# Altium footprint library PCB - POWER INDUCTORS - VISHAY IHLP-2020BZ-01.PcbLib: 1 footprints
Each footprint in its own frame and in the unit in brackets; x right, y up, seen from the top. Pads: shape width x height; smd on the part's side, far side on the other; paste and mask are expansions set on the pad; w line width, h text height; cw(c..) or ccw(c..) is an arc to the next point about the centre after c.
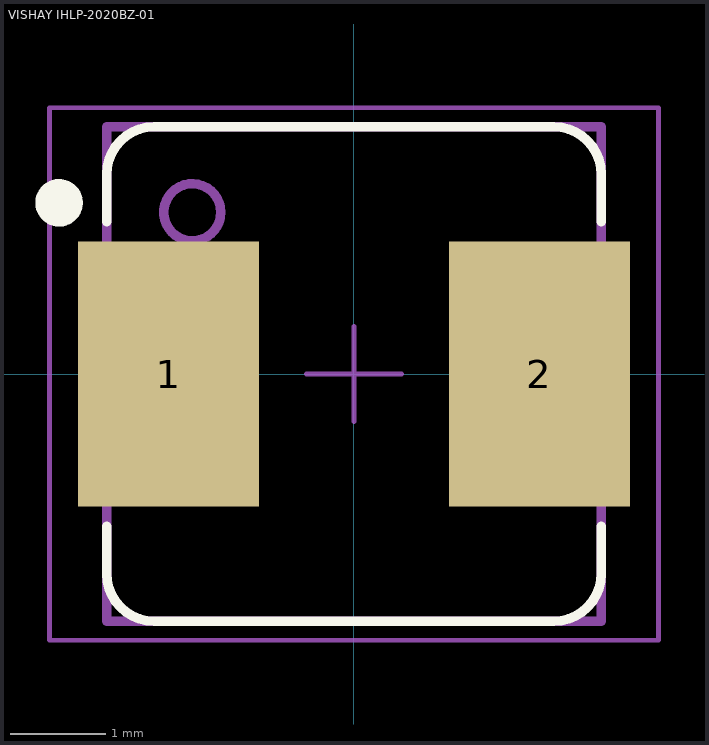
[diagram p0: the footprint, top view; thin cyan lines are the x and y axes]

## VISHAY IHLP-2020BZ-01 [mm] "SMD Power Inductor, 2-Leads, body 5x5mm"
height 2
pads (2):
  rect 1.905x2.79 smd: 1(-1.95,0) 2(1.95,0)
Top Overlay:
  circle w0.25: c-3.1,1.8 r0.125
  lines w0.1: -2.6,-1.6 -2.6,-2.1 ccw(c-2.1,-2.1) -2.1,-2.6 2.1,-2.6 ccw(c2.1,-2.1) 2.6,-2.1 2.6,-1.6 ; -2.6,1.6 -2.6,2.1 cw(c-2.1,2.1) -2.1,2.6 2.1,2.6 cw(c2.1,2.1) 2.6,2.1 2.6,1.6
Top 3D Body:
  circle w0.1: c-1.7,1.7 r0.3
  lines w0.1: -2.6,-2.6 -2.6,2.6 2.6,2.6 2.6,-2.6 -2.6,-2.6
Top Component Outline:
  circle w0.1: c-1.7,1.7 r0.3
  lines w0.1: -2.6,-2.6 -2.6,2.6 2.6,2.6 2.6,-2.6 -2.6,-2.6
Top Courtyard:
  lines w0.05: -0.5,0 0.5,0 ; 0,-0.5 0,0.5 ; -3.2,-2.8 3.2,-2.8 3.2,2.8 -3.2,2.8 -3.2,-2.8
3D body "VISHAY IHLP-2020BZ-01.step": height 2, standoff 0, extent -2.745,-2.59 2.745,2.59